# EAGLE library part CON-PINHEADER-MALE_M_2R03 (library bear_altimeters_lib)
Pin header, male, 2 rows
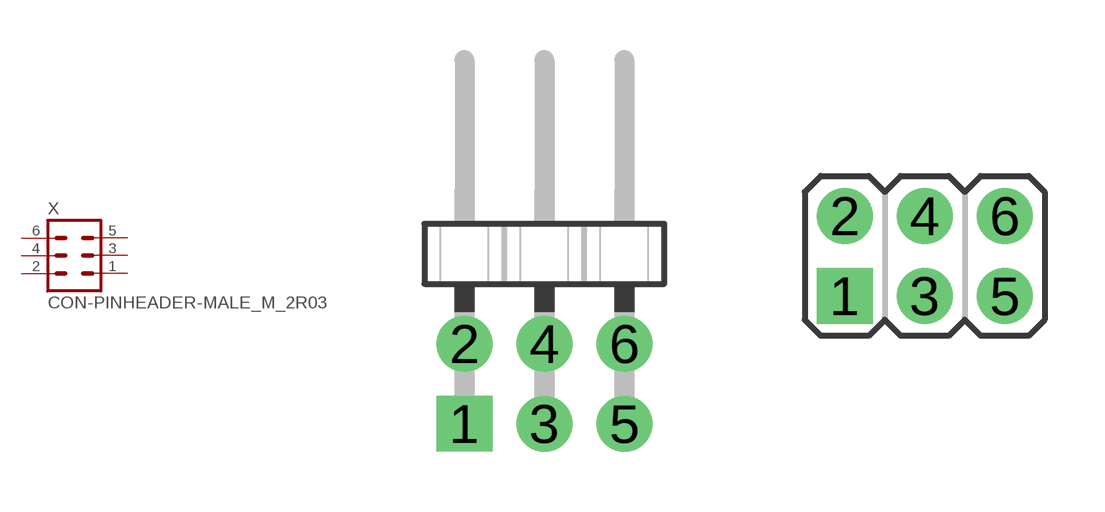
[diagram p11: symbol with the pads of CON-PINHEADER-MALE_M_2R03_2MM-H; footprints CON-PINHEADER-MALE_M_2R03_2MM-H, CON-PINHEADER-MALE_M_2R03_2MM-V]

Designator prefix X

## CON-PINHEADER-MALE_M_2R03_2MM-H  [CON-PINHEADER-MALE_M_2R03_2MM-H]
1  1
2  2
3  3
4  4
5  5
6  6

## CON-PINHEADER-MALE_M_2R03_2MM-V  [CON-PINHEADER-MALE_M_2R03_2MM-V]
Pads as for CON-PINHEADER-MALE_M_2R03_2MM-H

## CON-PINHEADER-MALE_M_2R03_50MIL-H1  [CON-PINHEADER-MALE_M_2R03_50MIL-H1]
Pads as for CON-PINHEADER-MALE_M_2R03_2MM-H

## CON-PINHEADER-MALE_M_2R03_50MIL-H2  [CON-PINHEADER-MALE_M_2R03_50MIL-H2]
Pads as for CON-PINHEADER-MALE_M_2R03_2MM-H

## CON-PINHEADER-MALE_M_2R03_50MIL-V1  [CON-PINHEADER-MALE_M_2R03_50MIL-V1]
Pads as for CON-PINHEADER-MALE_M_2R03_2MM-H

## CON-PINHEADER-MALE_M_2R03_50MIL-V2  [CON-PINHEADER-MALE_M_2R03_50MIL-V2]
Pads as for CON-PINHEADER-MALE_M_2R03_2MM-H

## CON-PINHEADER-MALE_M_2R03_100MIL-H1  [CON-PINHEADER-MALE_M_2R03_100MIL-H1]
Pads as for CON-PINHEADER-MALE_M_2R03_2MM-H

## CON-PINHEADER-MALE_M_2R03_100MIL-H2  [CON-PINHEADER-MALE_M_2R03_100MIL-H2]
Pads as for CON-PINHEADER-MALE_M_2R03_2MM-H

## CON-PINHEADER-MALE_M_2R03_100MIL-V  [CON-PINHEADER-MALE_M_2R03_100MIL-V]
Pads as for CON-PINHEADER-MALE_M_2R03_2MM-H

## Footprint CON-PINHEADER-MALE_M_2R03_2MM-H (pad centres in mm)
Pin header, male, 2 rows, pitch 2.0 mm, horizontal (side entry type, angled solder pins) square pins 0.5 mm
drill 0.8 pad 1.4 square: 1 -2,-1
drill 0.8 pad 1.4: 2 -2,1; 3 0,-1; 4 0,1; 5 2,-1; 6 2,1

## Footprint CON-PINHEADER-MALE_M_2R03_2MM-V (pad centres in mm)
Pin header, male, 2 rows, pitch 2.0 mm, vertical (top entry type, straight solder pins) square pins 0.5 mm
drill 0.8 pad 1.4 square: 1 -2,-1
drill 0.8 pad 1.4: 2 -2,1; 3 0,-1; 4 0,1; 5 2,-1; 6 2,1

## Footprint CON-PINHEADER-MALE_M_2R03_50MIL-H1 (pad centres in mm)
Pin header, male, 2 rows, pitch 50 mil, row distance 100 mil, horizontal (side entry type, angled solder pins) square pins 0.4 mm
drill 0.6 pad 1.05 square: 1 -1.27,-1.27
drill 0.6 pad 1.05: 2 -1.27,1.27; 3 0,-1.27; 4 0,1.27; 5 1.27,-1.27; 6 1.27,1.27

## Footprint CON-PINHEADER-MALE_M_2R03_50MIL-H2 (pad centres in mm)
Pin header, male, 2 rows, pitch 50 mil, row distance 50 mil, horizontal (side entry type, angled solder pins) square pins 0.4 mm
drill 0.6 pad 1.05 square: 1 -1.27,-0.635
drill 0.6 pad 1.05: 2 -1.27,0.635; 3 0,-0.635; 4 0,0.635; 5 1.27,-0.635; 6 1.27,0.635

## Footprint CON-PINHEADER-MALE_M_2R03_50MIL-V1 (pad centres in mm)
Pin header, male, 2 rows, pitch 50 mil, row distance 100 mil, vertical (top entry type, straight solder pins) square pins 0.4 mm
drill 0.6 pad 1.05 square: 1 -1.27,-1.27
drill 0.6 pad 1.05: 2 -1.27,1.27; 3 0,-1.27; 4 0,1.27; 5 1.27,-1.27; 6 1.27,1.27

## Footprint CON-PINHEADER-MALE_M_2R03_50MIL-V2 (pad centres in mm)
Pin header, male, 2 rows, pitch 50 mil, row distance 50 mil, vertical (top entry type, straight solder pins) square pins 0.4 mm
drill 0.6 pad 1.05 square: 1 -1.27,-0.635
drill 0.6 pad 1.05: 2 -1.27,0.635; 3 0,-0.635; 4 0,0.635; 5 1.27,-0.635; 6 1.27,0.635

## Footprint CON-PINHEADER-MALE_M_2R03_100MIL-H1 (pad centres in mm)
Pin header, male, 2 rows, pitch 100mil, horizontal (side entry type, angled solder pins) square pins 25 mil / 0.635 mm
drill 1 pad 1.6 square: 1 -2.54,-1.27
drill 1 pad 1.6: 2 -2.54,1.27; 3 0,-1.27; 4 0,1.27; 5 2.54,-1.27; 6 2.54,1.27

## Footprint CON-PINHEADER-MALE_M_2R03_100MIL-H2 (pad centres in mm)
Pin header, male low-profile, 2 rows, pitch 100mil, horizontal (side entry type, angled solder pins) square pins 25 mil / 0.635 mm
drill 1 pad 1.6 square: 1 -2.54,-1.27
drill 1 pad 1.6: 2 -2.54,1.27; 3 0,-1.27; 4 0,1.27; 5 2.54,-1.27; 6 2.54,1.27

## Footprint CON-PINHEADER-MALE_M_2R03_100MIL-V (pad centres in mm)
Pin header, male, 2 rows, pitch 100mil, vertical (top entry type, straight solder pins) square pins 25 mil / 0.635 mm
drill 1 pad 1.6 square: 1 -2.54,-1.27
drill 1 pad 1.6: 2 -2.54,1.27; 3 0,-1.27; 4 0,1.27; 5 2.54,-1.27; 6 2.54,1.27